# EAGLE library part TMR-NE555 (library eagleLib v2)
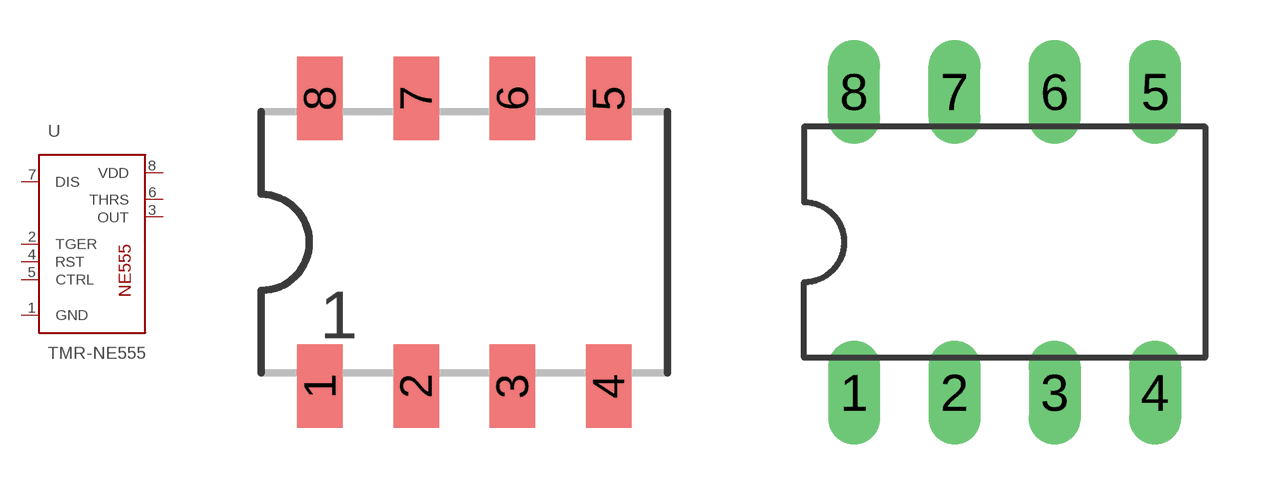
[diagram p22: symbol with the pads of DIP8; footprints DIP8, DIL08]

Designator prefix -

## TMR-NE555-D2  [DIP8]
1  GND
2  TGER
3  OUT
4  RST
5  CTRL
6  THRS
7  DIS
8  VDD

## TMR-NE555-D  [DIL08]
Pads as for DIP8

## TMR-NE555-S  [SO08]
Pads as for DIP8

## Footprint DIP8 (pad centres in mm)
SMD DIL08 dual in line package'
smd 1.2 x 2.2: 1 -3.81,-3.8; 2 -1.27,-3.8; 3 1.27,-3.8; 4 3.81,-3.8; 5 3.81,3.8; 6 1.27,3.8; 7 -1.27,3.8; 8 -3.81,3.8

## Footprint DIL08 (pad centres in mm)
Dual In Line Package
drill 0.813 long: 1 -3.81,-3.81; 2 -1.27,-3.81; 3 1.27,-3.81; 4 3.81,-3.81; 5 3.81,3.81; 6 1.27,3.81; 7 -1.27,3.81; 8 -3.81,3.81

## Footprint SO08 (pad centres in mm)
SMALL OUTLINE INTEGRATED CIRCUIT body 3.9 mm/JEDEC MS-012AA
smd 0.6 x 2.2: 1 -1.905,-2.6; 2 -0.635,-2.6; 3 0.635,-2.6; 4 1.905,-2.6; 5 1.905,2.6; 6 0.635,2.6; 7 -0.635,2.6; 8 -1.905,2.6